# Altium footprint library micro-renesas.PCBLIB: 11 footprints (part 1 of 2)
Each footprint in its own frame and in the unit in brackets; x right, y up, seen from the top. Pads: shape width x height; smd on the part's side, far side on the other; paste and mask are expansions set on the pad; w line width, h text height; cw(c..) or ccw(c..) is an arc to the next point about the centre after c.
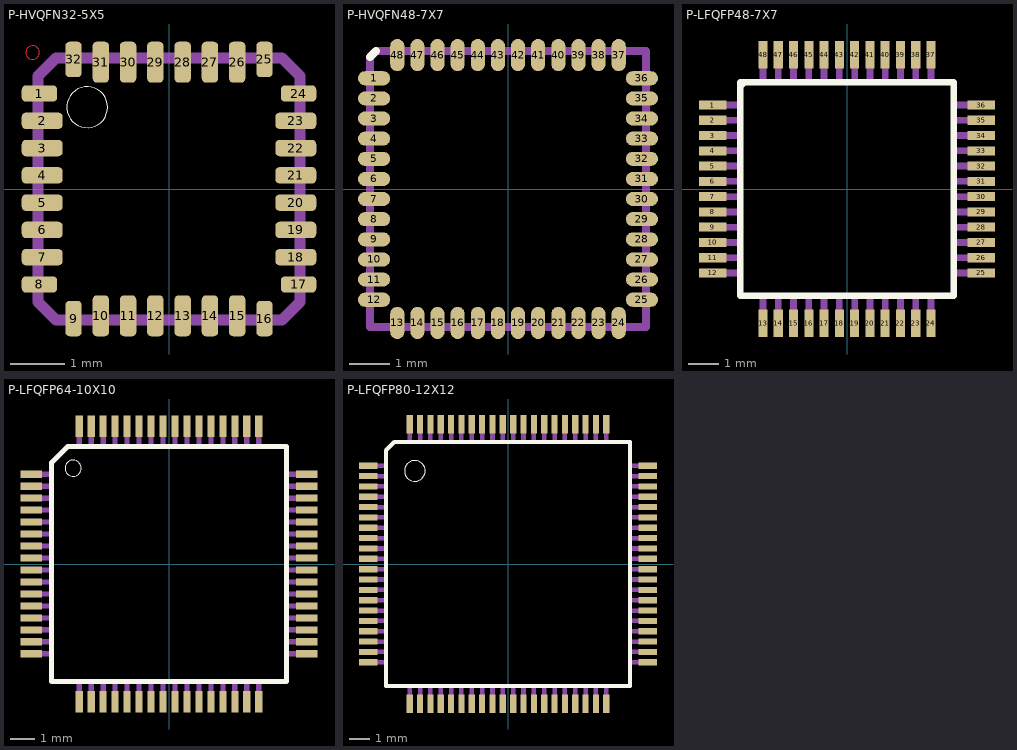
[diagram p0: the footprints below, top view; thin cyan lines are the x and y axes]

## P-HVQFN32-5X5 [mm]
pads (32):
  rrect50% 0.65x0.3 smd: 1(-2.375,1.75) 8(-2.375,-1.75) 17(2.375,-1.75) 24(2.375,1.75)
  rrect50% 0.75x0.3 smd: 2(-2.325,1.25) 3(-2.325,0.75) 4(-2.325,0.25) 5(-2.325,-0.25) 6(-2.325,-0.75) 7(-2.325,-1.25) 18(2.325,-1.25) 19(2.325,-0.75) 20(2.325,-0.25) 21(2.325,0.25) 22(2.325,0.75) 23(2.325,1.25)
  rrect50% 0.3x0.65 smd: 9(-1.75,-2.375) 16(1.75,-2.375) 25(1.75,2.375) 32(-1.75,2.375)
  rrect50% 0.3x0.75 smd: 10(-1.25,-2.325) 11(-0.75,-2.325) 12(-0.25,-2.325) 13(0.25,-2.325) 14(0.75,-2.325) 15(1.25,-2.325) 26(1.25,2.325) 27(0.75,2.325) 28(0.25,2.325) 29(-0.25,2.325) 30(-0.75,2.325) 31(-1.25,2.325)
Top Layer:
  circle w0: c-2.5,2.5 r0.125
Top Overlay:
  circle w0: c-1.5,1.5 r0.375
Bottom Paste:
  rectangle: -2.65,1.65 -2.1,1.85
  rectangle: -2.65,1.15 -2,1.35
  rectangle: -2.65,0.65 -2,0.85
  rectangle: -2.65,0.15 -2,0.35
  rectangle: -2.65,-0.35 -2,-0.15
  rectangle: -2.65,-0.85 -2,-0.65
  rectangle: -2.65,-1.35 -2,-1.15
  rectangle: -2.65,-1.85 -2.1,-1.65
  region: -1.65,-2.65 -1.65,-2.1 -1.85,-2.1 -1.85,-2.65
  region: -1.15,-2.65 -1.15,-2 -1.35,-2 -1.35,-2.65
  region: -0.65,-2.65 -0.65,-2 -0.85,-2 -0.85,-2.65
  region: -0.15,-2.65 -0.15,-2 -0.35,-2 -0.35,-2.65
  region: 0.35,-2.65 0.35,-2 0.15,-2 0.15,-2.65
  region: 0.85,-2.65 0.85,-2 0.65,-2 0.65,-2.65
  region: 1.35,-2.65 1.35,-2 1.15,-2 1.15,-2.65
  region: 1.85,-2.65 1.85,-2.1 1.65,-2.1 1.65,-2.65
  region: 2.65,-1.65 2.1,-1.65 2.1,-1.85 2.65,-1.85
  region: 2.65,-1.15 2,-1.15 2,-1.35 2.65,-1.35
  region: 2.65,-0.65 2,-0.65 2,-0.85 2.65,-0.85
  region: 2.65,-0.15 2,-0.15 2,-0.35 2.65,-0.35
  region: 2.65,0.35 2,0.35 2,0.15 2.65,0.15
  region: 2.65,0.85 2,0.85 2,0.65 2.65,0.65
  region: 2.65,1.35 2,1.35 2,1.15 2.65,1.15
  region: 2.65,1.85 2.1,1.85 2.1,1.65 2.65,1.65
  region: 1.65,2.65 1.65,2.1 1.85,2.1 1.85,2.65
  region: 1.15,2.65 1.15,2 1.35,2 1.35,2.65
  region: 0.65,2.65 0.65,2 0.85,2 0.85,2.65
  region: 0.15,2.65 0.15,2 0.35,2 0.35,2.65
  region: -0.35,2.65 -0.35,2 -0.15,2 -0.15,2.65
  region: -0.85,2.65 -0.85,2 -0.65,2 -0.65,2.65
  region: -1.35,2.65 -1.35,2 -1.15,2 -1.15,2.65
  region: -1.85,2.65 -1.85,2.1 -1.65,2.1 -1.65,2.65
Top Solder:
  rectangle: -2.75,1.55 -2,1.95
  rectangle: -2.75,1.05 -1.9,1.45
  rectangle: -2.75,0.55 -1.9,0.95
  rectangle: -2.75,0.05 -1.9,0.45
  rectangle: -2.75,-0.45 -1.9,-0.05
  rectangle: -2.75,-0.95 -1.9,-0.55
  rectangle: -2.75,-1.45 -1.9,-1.05
  rectangle: -2.75,-1.95 -2,-1.55
  region: -1.55,-2.75 -1.55,-2 -1.95,-2 -1.95,-2.75
  region: -1.05,-2.75 -1.05,-1.9 -1.45,-1.9 -1.45,-2.75
  region: -0.55,-2.75 -0.55,-1.9 -0.95,-1.9 -0.95,-2.75
  region: -0.05,-2.75 -0.05,-1.9 -0.45,-1.9 -0.45,-2.75
  region: 0.45,-2.75 0.45,-1.9 0.05,-1.9 0.05,-2.75
  region: 0.95,-2.75 0.95,-1.9 0.55,-1.9 0.55,-2.75
  region: 1.45,-2.75 1.45,-1.9 1.05,-1.9 1.05,-2.75
  region: 1.95,-2.75 1.95,-2 1.55,-2 1.55,-2.75
  region: 2.75,-1.55 2,-1.55 2,-1.95 2.75,-1.95
  region: 2.75,-1.05 1.9,-1.05 1.9,-1.45 2.75,-1.45
  region: 2.75,-0.55 1.9,-0.55 1.9,-0.95 2.75,-0.95
  region: 2.75,-0.05 1.9,-0.05 1.9,-0.45 2.75,-0.45
  region: 2.75,0.45 1.9,0.45 1.9,0.05 2.75,0.05
  region: 2.75,0.95 1.9,0.95 1.9,0.55 2.75,0.55
  region: 2.75,1.45 1.9,1.45 1.9,1.05 2.75,1.05
  region: 2.75,1.95 2,1.95 2,1.55 2.75,1.55
  region: 1.55,2.75 1.55,2 1.95,2 1.95,2.75
  region: 1.05,2.75 1.05,1.9 1.45,1.9 1.45,2.75
  region: 0.55,2.75 0.55,1.9 0.95,1.9 0.95,2.75
  region: 0.05,2.75 0.05,1.9 0.45,1.9 0.45,2.75
  region: -0.45,2.75 -0.45,1.9 -0.05,1.9 -0.05,2.75
  region: -0.95,2.75 -0.95,1.9 -0.55,1.9 -0.55,2.75
  region: -1.45,2.75 -1.45,1.9 -1.05,1.9 -1.05,2.75
  region: -1.95,2.75 -1.95,2 -1.55,2 -1.55,2.75
Mechanical 16:
  lines w0.203: -2.399,-2.073 -2.399,2.073 -2.073,2.399 2.073,2.399 2.399,2.073 2.399,-2.073 2.073,-2.399 -2.073,-2.399 -2.399,-2.073

## P-HVQFN48-7X7 [mm]
pads (48):
  rrect100% 0.8x0.35 smd: 1(-3.325,2.75) 2(-3.325,2.25) 3(-3.325,1.75) 4(-3.325,1.25) 5(-3.325,0.75) 6(-3.325,0.25) 7(-3.325,-0.25) 8(-3.325,-0.75) 9(-3.325,-1.25) 10(-3.325,-1.75) 11(-3.325,-2.25) 12(-3.325,-2.75) 25(3.325,-2.75) 26(3.325,-2.25) 27(3.325,-1.75) 28(3.325,-1.25) 29(3.325,-0.75) 30(3.325,-0.25) 31(3.325,0.25) 32(3.325,0.75) 33(3.325,1.25) 34(3.325,1.75) 35(3.325,2.25) 36(3.325,2.75)
  rrect100% 0.35x0.8 smd: 13(-2.75,-3.325) 14(-2.25,-3.325) 15(-1.75,-3.325) 16(-1.25,-3.325) 17(-0.75,-3.325) 18(-0.25,-3.325) 19(0.25,-3.325) 20(0.75,-3.325) 21(1.25,-3.325) 22(1.75,-3.325) 23(2.25,-3.325) 24(2.75,-3.325) 37(2.75,3.325) 38(2.25,3.325) 39(1.75,3.325) 40(1.25,3.325) 41(0.75,3.325) 42(0.25,3.325) 43(-0.25,3.325) 44(-0.75,3.325) 45(-1.25,3.325) 46(-1.75,3.325) 47(-2.25,3.325) 48(-2.75,3.325)
Top Overlay:
  lines w0.203: -3.423,3.275 -3.275,3.423
Top Solder:
  lines w0.4: -3.55,-2.75 -3.1,-2.75 ; -3.55,-2.25 -3.1,-2.25 ; -3.55,-1.75 -3.1,-1.75 ; -3.55,-1.25 -3.1,-1.25 ; -3.55,-0.75 -3.1,-0.75 ; -3.55,-0.25 -3.1,-0.25 ; -3.55,0.25 -3.1,0.25 ; -3.55,0.75 -3.1,0.75 ; -3.55,1.25 -3.1,1.25 ; -3.55,1.75 -3.1,1.75 ; -3.55,2.25 -3.1,2.25 ; -3.55,2.75 -3.1,2.75 ; -2.75,-3.55 -2.75,-3.1 ; -2.75,3.1 -2.75,3.55 ; -2.25,-3.55 -2.25,-3.1 ; -2.25,3.1 -2.25,3.55 ; -1.75,-3.55 -1.75,-3.1 ; -1.75,3.1 -1.75,3.55 ; -1.25,-3.55 -1.25,-3.1 ; -1.25,3.1 -1.25,3.55 ; -0.75,-3.55 -0.75,-3.1 ; -0.75,3.1 -0.75,3.55 ; -0.25,-3.55 -0.25,-3.1 ; -0.25,3.1 -0.25,3.55 ; 0.25,-3.55 0.25,-3.1 ; 0.25,3.1 0.25,3.55 ; 0.75,-3.55 0.75,-3.1 ; 0.75,3.1 0.75,3.55 ; 1.25,-3.55 1.25,-3.1 ; 1.25,3.1 1.25,3.55 ; 1.75,-3.55 1.75,-3.1 ; 1.75,3.1 1.75,3.55 ; 2.25,-3.55 2.25,-3.1 ; 2.25,3.1 2.25,3.55 ; 2.75,-3.55 2.75,-3.1 ; 2.75,3.1 2.75,3.55 ; 3.1,-2.75 3.55,-2.75 ; 3.1,-2.25 3.55,-2.25 ; 3.1,-1.75 3.55,-1.75 ; 3.1,-1.25 3.55,-1.25 ; 3.1,-0.75 3.55,-0.75 ; 3.1,-0.25 3.55,-0.25 ; 3.1,0.25 3.55,0.25 ; 3.1,0.75 3.55,0.75 ; 3.1,1.25 3.55,1.25 ; 3.1,1.75 3.55,1.75 ; 3.1,2.25 3.55,2.25 ; 3.1,2.75 3.55,2.75
Bottom Solder:
  lines w0.3: -3.55,-2.75 -3.1,-2.75 ; -3.55,-2.25 -3.1,-2.25 ; -3.55,-1.75 -3.1,-1.75 ; -3.55,-1.25 -3.1,-1.25 ; -3.55,-0.75 -3.1,-0.75 ; -3.55,-0.25 -3.1,-0.25 ; -3.55,0.25 -3.1,0.25 ; -3.55,0.75 -3.1,0.75 ; -3.55,1.25 -3.1,1.25 ; -3.55,1.75 -3.1,1.75 ; -3.55,2.25 -3.1,2.25 ; -3.55,2.75 -3.1,2.75 ; -2.75,-3.55 -2.75,-3.1 ; -2.75,3.1 -2.75,3.55 ; -2.25,-3.55 -2.25,-3.1 ; -2.25,3.1 -2.25,3.55 ; -1.75,-3.55 -1.75,-3.1 ; -1.75,3.1 -1.75,3.55 ; -1.25,-3.55 -1.25,-3.1 ; -1.25,3.1 -1.25,3.55 ; -0.75,-3.55 -0.75,-3.1 ; -0.75,3.1 -0.75,3.55 ; -0.25,-3.55 -0.25,-3.1 ; -0.25,3.1 -0.25,3.55 ; 0.25,-3.55 0.25,-3.1 ; 0.25,3.1 0.25,3.55 ; 0.75,-3.55 0.75,-3.1 ; 0.75,3.1 0.75,3.55 ; 1.25,-3.55 1.25,-3.1 ; 1.25,3.1 1.25,3.55 ; 1.75,-3.55 1.75,-3.1 ; 1.75,3.1 1.75,3.55 ; 2.25,-3.55 2.25,-3.1 ; 2.25,3.1 2.25,3.55 ; 2.75,-3.55 2.75,-3.1 ; 2.75,3.1 2.75,3.55 ; 3.1,-2.75 3.55,-2.75 ; 3.1,-2.25 3.55,-2.25 ; 3.1,-1.75 3.55,-1.75 ; 3.1,-1.25 3.55,-1.25 ; 3.1,-0.75 3.55,-0.75 ; 3.1,-0.25 3.55,-0.25 ; 3.1,0.25 3.55,0.25 ; 3.1,0.75 3.55,0.75 ; 3.1,1.25 3.55,1.25 ; 3.1,1.75 3.55,1.75 ; 3.1,2.25 3.55,2.25 ; 3.1,2.75 3.55,2.75
Mechanical 16:
  lines w0.203: -3.423,3.275 -3.423,-3.423 3.423,-3.423 3.423,3.423 -3.275,3.423

## P-LFQFP48-7X7 [mm]
pads (48):
  rect 0.9x0.3 smd: 1(-4.4,2.75) 2(-4.4,2.25) 3(-4.4,1.75) 4(-4.4,1.25) 5(-4.4,0.75) 6(-4.4,0.25) 7(-4.4,-0.25) 8(-4.4,-0.75) 9(-4.4,-1.25) 10(-4.4,-1.75) 11(-4.4,-2.25) 12(-4.4,-2.75) 25(4.4,-2.75) 26(4.4,-2.25) 27(4.4,-1.75) 28(4.4,-1.25) 29(4.4,-0.75) 30(4.4,-0.25) 31(4.4,0.25) 32(4.4,0.75) 33(4.4,1.25) 34(4.4,1.75) 35(4.4,2.25) 36(4.4,2.75)
  rect 0.3x0.9 smd: 13(-2.75,-4.4) 14(-2.25,-4.4) 15(-1.75,-4.4) 16(-1.25,-4.4) 17(-0.75,-4.4) 18(-0.25,-4.4) 19(0.25,-4.4) 20(0.75,-4.4) 21(1.25,-4.4) 22(1.75,-4.4) 23(2.25,-4.4) 24(2.75,-4.4) 37(2.75,4.4) 38(2.25,4.4) 39(1.75,4.4) 40(1.25,4.4) 41(0.75,4.4) 42(0.25,4.4) 43(-0.25,4.4) 44(-0.75,4.4) 45(-1.25,4.4) 46(-1.75,4.4) 47(-2.25,4.4) 48(-2.75,4.4)
Top Overlay:
  lines w0.203: -3.498,3.35 -3.35,3.498 ; -3.498,-3.498 3.498,-3.498 3.498,3.498 -3.498,3.498 -3.498,-3.498
Top Paste:
  rectangle: -4.825,2.612 -3.975,2.887
  rectangle: -4.825,2.113 -3.975,2.388
  rectangle: -4.825,1.612 -3.975,1.887
  rectangle: -4.825,1.113 -3.975,1.388
  rectangle: -4.825,0.612 -3.975,0.887
  rectangle: -4.825,0.113 -3.975,0.388
  rectangle: -4.825,-0.388 -3.975,-0.113
  rectangle: -4.825,-0.887 -3.975,-0.612
  rectangle: -4.825,-1.388 -3.975,-1.113
  rectangle: -4.825,-1.887 -3.975,-1.612
  rectangle: -4.825,-2.388 -3.975,-2.113
  rectangle: -4.825,-2.887 -3.975,-2.612
  region: -2.613,-4.825 -2.613,-3.975 -2.887,-3.975 -2.887,-4.825
  region: -2.113,-4.825 -2.113,-3.975 -2.387,-3.975 -2.387,-4.825
  region: -1.613,-4.825 -1.613,-3.975 -1.887,-3.975 -1.887,-4.825
  region: -1.113,-4.825 -1.113,-3.975 -1.387,-3.975 -1.387,-4.825
  region: -0.613,-4.825 -0.613,-3.975 -0.887,-3.975 -0.887,-4.825
  region: -0.113,-4.825 -0.113,-3.975 -0.387,-3.975 -0.387,-4.825
  region: 0.387,-4.825 0.387,-3.975 0.113,-3.975 0.113,-4.825
  region: 0.887,-4.825 0.887,-3.975 0.613,-3.975 0.613,-4.825
  region: 1.387,-4.825 1.387,-3.975 1.113,-3.975 1.113,-4.825
  region: 1.887,-4.825 1.887,-3.975 1.613,-3.975 1.613,-4.825
  region: 2.387,-4.825 2.387,-3.975 2.113,-3.975 2.113,-4.825
  region: 2.887,-4.825 2.887,-3.975 2.613,-3.975 2.613,-4.825
  region: 4.825,-2.612 3.975,-2.612 3.975,-2.887 4.825,-2.887
  region: 4.825,-2.113 3.975,-2.113 3.975,-2.388 4.825,-2.388
  region: 4.825,-1.612 3.975,-1.612 3.975,-1.887 4.825,-1.887
  region: 4.825,-1.113 3.975,-1.113 3.975,-1.388 4.825,-1.388
  region: 4.825,-0.612 3.975,-0.612 3.975,-0.887 4.825,-0.887
  region: 4.825,-0.113 3.975,-0.113 3.975,-0.388 4.825,-0.388
  region: 4.825,0.388 3.975,0.388 3.975,0.113 4.825,0.113
  region: 4.825,0.887 3.975,0.887 3.975,0.612 4.825,0.612
  region: 4.825,1.388 3.975,1.388 3.975,1.113 4.825,1.113
  region: 4.825,1.887 3.975,1.887 3.975,1.612 4.825,1.612
  region: 4.825,2.388 3.975,2.388 3.975,2.113 4.825,2.113
  region: 4.825,2.887 3.975,2.887 3.975,2.612 4.825,2.612
  region: 2.613,4.825 2.613,3.975 2.887,3.975 2.887,4.825
  region: 2.113,4.825 2.113,3.975 2.387,3.975 2.387,4.825
  region: 1.613,4.825 1.613,3.975 1.887,3.975 1.887,4.825
  region: 1.113,4.825 1.113,3.975 1.387,3.975 1.387,4.825
  region: 0.613,4.825 0.613,3.975 0.887,3.975 0.887,4.825
  region: 0.113,4.825 0.113,3.975 0.387,3.975 0.387,4.825
  region: -0.387,4.825 -0.387,3.975 -0.113,3.975 -0.113,4.825
  region: -0.887,4.825 -0.887,3.975 -0.613,3.975 -0.613,4.825
  region: -1.387,4.825 -1.387,3.975 -1.113,3.975 -1.113,4.825
  region: -1.887,4.825 -1.887,3.975 -1.613,3.975 -1.613,4.825
  region: -2.387,4.825 -2.387,3.975 -2.113,3.975 -2.113,4.825
  region: -2.887,4.825 -2.887,3.975 -2.613,3.975 -2.613,4.825
Top Solder:
  rectangle: -4.913,2.575 -3.9,2.925
  rectangle: -4.913,2.075 -3.9,2.425
  rectangle: -4.913,1.575 -3.9,1.925
  rectangle: -4.913,1.075 -3.9,1.425
  rectangle: -4.913,0.575 -3.9,0.925
  rectangle: -4.913,0.075 -3.9,0.425
  rectangle: -4.913,-0.425 -3.9,-0.075
  rectangle: -4.913,-0.925 -3.9,-0.575
  rectangle: -4.913,-1.425 -3.9,-1.075
  rectangle: -4.913,-1.925 -3.9,-1.575
  rectangle: -4.913,-2.425 -3.9,-2.075
  rectangle: -4.913,-2.925 -3.9,-2.575
  region: -2.575,-4.912 -2.575,-3.9 -2.925,-3.9 -2.925,-4.912
  region: -2.075,-4.912 -2.075,-3.9 -2.425,-3.9 -2.425,-4.912
  region: -1.575,-4.912 -1.575,-3.9 -1.925,-3.9 -1.925,-4.912
  region: -1.075,-4.912 -1.075,-3.9 -1.425,-3.9 -1.425,-4.912
  region: -0.575,-4.912 -0.575,-3.9 -0.925,-3.9 -0.925,-4.912
  region: -0.075,-4.912 -0.075,-3.9 -0.425,-3.9 -0.425,-4.912
  region: 0.425,-4.912 0.425,-3.9 0.075,-3.9 0.075,-4.912
  region: 0.925,-4.912 0.925,-3.9 0.575,-3.9 0.575,-4.912
  region: 1.425,-4.912 1.425,-3.9 1.075,-3.9 1.075,-4.912
  region: 1.925,-4.912 1.925,-3.9 1.575,-3.9 1.575,-4.912
  region: 2.425,-4.912 2.425,-3.9 2.075,-3.9 2.075,-4.912
  region: 2.925,-4.912 2.925,-3.9 2.575,-3.9 2.575,-4.912
  region: 4.913,-2.575 3.9,-2.575 3.9,-2.925 4.913,-2.925
  region: 4.913,-2.075 3.9,-2.075 3.9,-2.425 4.913,-2.425
  region: 4.913,-1.575 3.9,-1.575 3.9,-1.925 4.913,-1.925
  region: 4.913,-1.075 3.9,-1.075 3.9,-1.425 4.913,-1.425
  region: 4.913,-0.575 3.9,-0.575 3.9,-0.925 4.913,-0.925
  region: 4.913,-0.075 3.9,-0.075 3.9,-0.425 4.913,-0.425
  region: 4.913,0.425 3.9,0.425 3.9,0.075 4.913,0.075
  region: 4.913,0.925 3.9,0.925 3.9,0.575 4.913,0.575
  region: 4.913,1.425 3.9,1.425 3.9,1.075 4.913,1.075
  region: 4.913,1.925 3.9,1.925 3.9,1.575 4.913,1.575
  region: 4.913,2.425 3.9,2.425 3.9,2.075 4.913,2.075
  region: 4.913,2.925 3.9,2.925 3.9,2.575 4.913,2.575
  region: 2.575,4.912 2.575,3.9 2.925,3.9 2.925,4.912
  region: 2.075,4.912 2.075,3.9 2.425,3.9 2.425,4.912
  region: 1.575,4.912 1.575,3.9 1.925,3.9 1.925,4.912
  region: 1.075,4.912 1.075,3.9 1.425,3.9 1.425,4.912
  region: 0.575,4.912 0.575,3.9 0.925,3.9 0.925,4.912
  region: 0.075,4.912 0.075,3.9 0.425,3.9 0.425,4.912
  region: -0.425,4.912 -0.425,3.9 -0.075,3.9 -0.075,4.912
  region: -0.925,4.912 -0.925,3.9 -0.575,3.9 -0.575,4.912
  region: -1.425,4.912 -1.425,3.9 -1.075,3.9 -1.075,4.912
  region: -1.925,4.912 -1.925,3.9 -1.575,3.9 -1.575,4.912
  region: -2.425,4.912 -2.425,3.9 -2.075,3.9 -2.075,4.912
  region: -2.925,4.912 -2.925,3.9 -2.575,3.9 -2.575,4.912
Mechanical 16:
  rectangle: -4.55,2.64 -3.6,2.86
  rectangle: -4.55,2.14 -3.6,2.36
  rectangle: -4.55,1.64 -3.6,1.86
  rectangle: -4.55,1.14 -3.6,1.36
  rectangle: -4.55,0.64 -3.6,0.86
  rectangle: -4.55,0.14 -3.6,0.36
  rectangle: -4.55,-0.36 -3.6,-0.14
  rectangle: -4.55,-0.86 -3.6,-0.64
  rectangle: -4.55,-1.36 -3.6,-1.14
  rectangle: -4.55,-1.86 -3.6,-1.64
  rectangle: -4.55,-2.36 -3.6,-2.14
  rectangle: -4.55,-2.86 -3.6,-2.64
  rectangle: -2.86,-4.55 -2.64,-3.6
  rectangle: -2.36,-4.55 -2.14,-3.6
  rectangle: -1.86,-4.55 -1.64,-3.6
  rectangle: -1.36,-4.55 -1.14,-3.6
  rectangle: -0.86,-4.55 -0.64,-3.6
  rectangle: -0.36,-4.55 -0.14,-3.6
  rectangle: 0.14,-4.55 0.36,-3.6
  rectangle: 0.64,-4.55 0.86,-3.6
  rectangle: 1.14,-4.55 1.36,-3.6
  rectangle: 1.64,-4.55 1.86,-3.6
  rectangle: 2.14,-4.55 2.36,-3.6
  rectangle: 2.64,-4.55 2.86,-3.6
  rectangle: 3.6,-2.86 4.55,-2.64
  rectangle: 3.6,-2.36 4.55,-2.14
  rectangle: 3.6,-1.86 4.55,-1.64
  rectangle: 3.6,-1.36 4.55,-1.14
  rectangle: 3.6,-0.86 4.55,-0.64
  rectangle: 3.6,-0.36 4.55,-0.14
  rectangle: 3.6,0.14 4.55,0.36
  rectangle: 3.6,0.64 4.55,0.86
  rectangle: 3.6,1.14 4.55,1.36
  rectangle: 3.6,1.64 4.55,1.86
  rectangle: 3.6,2.14 4.55,2.36
  rectangle: 3.6,2.64 4.55,2.86
  rectangle: 2.64,3.6 2.86,4.55
  rectangle: 2.14,3.6 2.36,4.55
  rectangle: 1.64,3.6 1.86,4.55
  rectangle: 1.14,3.6 1.36,4.55
  rectangle: 0.64,3.6 0.86,4.55
  rectangle: 0.14,3.6 0.36,4.55
  rectangle: -0.36,3.6 -0.14,4.55
  rectangle: -0.86,3.6 -0.64,4.55
  rectangle: -1.36,3.6 -1.14,4.55
  rectangle: -1.86,3.6 -1.64,4.55
  rectangle: -2.36,3.6 -2.14,4.55
  rectangle: -2.86,3.6 -2.64,4.55

## P-LFQFP64-10X10 [mm]
pads (64):
  rect 0.9x0.3 smd: 1(-5.75,3.75) 2(-5.75,3.25) 3(-5.75,2.75) 4(-5.75,2.25) 5(-5.75,1.75) 6(-5.75,1.25) 7(-5.75,0.75) 8(-5.75,0.25) 9(-5.75,-0.25) 10(-5.75,-0.75) 11(-5.75,-1.25) 12(-5.75,-1.75) 13(-5.75,-2.25) 14(-5.75,-2.75) 15(-5.75,-3.25) 16(-5.75,-3.75) 33(5.75,-3.75) 34(5.75,-3.25) 35(5.75,-2.75) 36(5.75,-2.25) 37(5.75,-1.75) 38(5.75,-1.25) 39(5.75,-0.75) 40(5.75,-0.25) 41(5.75,0.25) 42(5.75,0.75) 43(5.75,1.25) 44(5.75,1.75) 45(5.75,2.25) 46(5.75,2.75) 47(5.75,3.25) 48(5.75,3.75)
  rect 0.3x0.9 smd: 17(-3.75,-5.75) 18(-3.25,-5.75) 19(-2.75,-5.75) 20(-2.25,-5.75) 21(-1.75,-5.75) 22(-1.25,-5.75) 23(-0.75,-5.75) 24(-0.25,-5.75) 25(0.25,-5.75) 26(0.75,-5.75) 27(1.25,-5.75) 28(1.75,-5.75) 29(2.25,-5.75) 30(2.75,-5.75) 31(3.25,-5.75) 32(3.75,-5.75) 49(3.75,5.75) 50(3.25,5.75) 51(2.75,5.75) 52(2.25,5.75) 53(1.75,5.75) 54(1.25,5.75) 55(0.75,5.75) 56(0.25,5.75) 57(-0.25,5.75) 58(-0.75,5.75) 59(-1.25,5.75) 60(-1.75,5.75) 61(-2.25,5.75) 62(-2.75,5.75) 63(-3.25,5.75) 64(-3.75,5.75)
Top Overlay:
  circle w0: c-4,4 r0.338
  lines w0.203: -4.898,-4.898 4.898,-4.898 4.898,4.898 -4.237,4.898 -4.898,4.237 -4.898,-4.898
Top Paste:
  rectangle: -6.175,3.612 -5.325,3.887
  rectangle: -6.175,3.113 -5.325,3.388
  rectangle: -6.175,2.612 -5.325,2.887
  rectangle: -6.175,2.113 -5.325,2.388
  rectangle: -6.175,1.612 -5.325,1.887
  rectangle: -6.175,1.113 -5.325,1.388
  rectangle: -6.175,0.612 -5.325,0.887
  rectangle: -6.175,0.113 -5.325,0.388
  rectangle: -6.175,-0.388 -5.325,-0.113
  rectangle: -6.175,-0.887 -5.325,-0.612
  rectangle: -6.175,-1.388 -5.325,-1.113
  rectangle: -6.175,-1.887 -5.325,-1.612
  rectangle: -6.175,-2.388 -5.325,-2.113
  rectangle: -6.175,-2.887 -5.325,-2.612
  rectangle: -6.175,-3.388 -5.325,-3.113
  rectangle: -6.175,-3.887 -5.325,-3.612
  region: -3.613,-6.175 -3.613,-5.325 -3.888,-5.325 -3.888,-6.175
  region: -3.113,-6.175 -3.113,-5.325 -3.388,-5.325 -3.388,-6.175
  region: -2.613,-6.175 -2.613,-5.325 -2.888,-5.325 -2.888,-6.175
  region: -2.113,-6.175 -2.113,-5.325 -2.388,-5.325 -2.388,-6.175
  region: -1.613,-6.175 -1.613,-5.325 -1.888,-5.325 -1.888,-6.175
  region: -1.112,-6.175 -1.112,-5.325 -1.387,-5.325 -1.387,-6.175
  region: -0.613,-6.175 -0.613,-5.325 -0.888,-5.325 -0.888,-6.175
  region: -0.112,-6.175 -0.112,-5.325 -0.387,-5.325 -0.387,-6.175
  region: 0.387,-6.175 0.387,-5.325 0.112,-5.325 0.112,-6.175
  region: 0.888,-6.175 0.888,-5.325 0.613,-5.325 0.613,-6.175
  region: 1.387,-6.175 1.387,-5.325 1.112,-5.325 1.112,-6.175
  region: 1.888,-6.175 1.888,-5.325 1.613,-5.325 1.613,-6.175
  region: 2.388,-6.175 2.388,-5.325 2.113,-5.325 2.113,-6.175
  region: 2.888,-6.175 2.888,-5.325 2.613,-5.325 2.613,-6.175
  region: 3.388,-6.175 3.388,-5.325 3.113,-5.325 3.113,-6.175
  region: 3.888,-6.175 3.888,-5.325 3.613,-5.325 3.613,-6.175
  region: 6.175,-3.612 5.325,-3.612 5.325,-3.887 6.175,-3.887
  region: 6.175,-3.113 5.325,-3.113 5.325,-3.388 6.175,-3.388
  region: 6.175,-2.612 5.325,-2.612 5.325,-2.887 6.175,-2.887
  region: 6.175,-2.113 5.325,-2.113 5.325,-2.388 6.175,-2.388
  region: 6.175,-1.612 5.325,-1.612 5.325,-1.887 6.175,-1.887
  region: 6.175,-1.113 5.325,-1.113 5.325,-1.388 6.175,-1.388
  region: 6.175,-0.612 5.325,-0.612 5.325,-0.887 6.175,-0.887
  region: 6.175,-0.113 5.325,-0.113 5.325,-0.388 6.175,-0.388
  region: 6.175,0.388 5.325,0.388 5.325,0.113 6.175,0.113
  region: 6.175,0.887 5.325,0.887 5.325,0.612 6.175,0.612
  region: 6.175,1.388 5.325,1.388 5.325,1.113 6.175,1.113
  region: 6.175,1.887 5.325,1.887 5.325,1.612 6.175,1.612
  region: 6.175,2.388 5.325,2.388 5.325,2.113 6.175,2.113
  region: 6.175,2.887 5.325,2.887 5.325,2.612 6.175,2.612
  region: 6.175,3.388 5.325,3.388 5.325,3.113 6.175,3.113
  region: 6.175,3.887 5.325,3.887 5.325,3.612 6.175,3.612
  region: 3.613,6.175 3.613,5.325 3.888,5.325 3.888,6.175
  region: 3.113,6.175 3.113,5.325 3.388,5.325 3.388,6.175
  region: 2.613,6.175 2.613,5.325 2.888,5.325 2.888,6.175
  region: 2.113,6.175 2.113,5.325 2.388,5.325 2.388,6.175
  region: 1.613,6.175 1.613,5.325 1.888,5.325 1.888,6.175
  region: 1.112,6.175 1.112,5.325 1.387,5.325 1.387,6.175
  region: 0.613,6.175 0.613,5.325 0.888,5.325 0.888,6.175
  region: 0.112,6.175 0.112,5.325 0.387,5.325 0.387,6.175
  region: -0.387,6.175 -0.387,5.325 -0.112,5.325 -0.112,6.175
  region: -0.888,6.175 -0.888,5.325 -0.613,5.325 -0.613,6.175
  region: -1.387,6.175 -1.387,5.325 -1.112,5.325 -1.112,6.175
  region: -1.888,6.175 -1.888,5.325 -1.613,5.325 -1.613,6.175
  region: -2.388,6.175 -2.388,5.325 -2.113,5.325 -2.113,6.175
  region: -2.888,6.175 -2.888,5.325 -2.613,5.325 -2.613,6.175
  region: -3.388,6.175 -3.388,5.325 -3.113,5.325 -3.113,6.175
  region: -3.888,6.175 -3.888,5.325 -3.613,5.325 -3.613,6.175
Top Solder:
  rectangle: -6.263,3.575 -5.237,3.925
  rectangle: -6.263,3.075 -5.237,3.425
  rectangle: -6.263,2.575 -5.237,2.925
  rectangle: -6.263,2.075 -5.237,2.425
  rectangle: -6.263,1.575 -5.237,1.925
  rectangle: -6.263,1.075 -5.237,1.425
  rectangle: -6.263,0.575 -5.237,0.925
  rectangle: -6.263,0.075 -5.237,0.425
  rectangle: -6.263,-0.425 -5.237,-0.075
  rectangle: -6.263,-0.925 -5.237,-0.575
  rectangle: -6.263,-1.425 -5.237,-1.075
  rectangle: -6.263,-1.925 -5.237,-1.575
  rectangle: -6.263,-2.425 -5.237,-2.075
  rectangle: -6.263,-2.925 -5.237,-2.575
  rectangle: -6.263,-3.425 -5.237,-3.075
  rectangle: -6.263,-3.925 -5.237,-3.575
  region: -3.575,-6.263 -3.575,-5.237 -3.925,-5.237 -3.925,-6.263
  region: -3.075,-6.262 -3.075,-5.238 -3.425,-5.238 -3.425,-6.262
  region: -2.575,-6.262 -2.575,-5.238 -2.925,-5.238 -2.925,-6.262
  region: -2.075,-6.262 -2.075,-5.238 -2.425,-5.238 -2.425,-6.262
  region: -1.575,-6.262 -1.575,-5.238 -1.925,-5.238 -1.925,-6.262
  region: -1.075,-6.262 -1.075,-5.238 -1.425,-5.238 -1.425,-6.262
  region: -0.575,-6.262 -0.575,-5.238 -0.925,-5.238 -0.925,-6.262
  region: -0.075,-6.262 -0.075,-5.238 -0.425,-5.238 -0.425,-6.262
  region: 0.425,-6.262 0.425,-5.238 0.075,-5.238 0.075,-6.262
  region: 0.925,-6.262 0.925,-5.238 0.575,-5.238 0.575,-6.262
  region: 1.425,-6.262 1.425,-5.238 1.075,-5.238 1.075,-6.262
  region: 1.925,-6.262 1.925,-5.238 1.575,-5.238 1.575,-6.262
  region: 2.425,-6.262 2.425,-5.238 2.075,-5.238 2.075,-6.262
  region: 2.925,-6.262 2.925,-5.238 2.575,-5.238 2.575,-6.262
  region: 3.425,-6.262 3.425,-5.238 3.075,-5.238 3.075,-6.262
  region: 3.925,-6.263 3.925,-5.237 3.575,-5.237 3.575,-6.263
  region: 6.263,-3.575 5.237,-3.575 5.237,-3.925 6.263,-3.925
  region: 6.263,-3.075 5.237,-3.075 5.237,-3.425 6.263,-3.425
  region: 6.263,-2.575 5.237,-2.575 5.237,-2.925 6.263,-2.925
  region: 6.263,-2.075 5.237,-2.075 5.237,-2.425 6.263,-2.425
  region: 6.263,-1.575 5.237,-1.575 5.237,-1.925 6.263,-1.925
  region: 6.263,-1.075 5.237,-1.075 5.237,-1.425 6.263,-1.425
  region: 6.263,-0.575 5.237,-0.575 5.237,-0.925 6.263,-0.925
  region: 6.263,-0.075 5.237,-0.075 5.237,-0.425 6.263,-0.425
  region: 6.263,0.425 5.237,0.425 5.237,0.075 6.263,0.075
  region: 6.263,0.925 5.237,0.925 5.237,0.575 6.263,0.575
  region: 6.263,1.425 5.237,1.425 5.237,1.075 6.263,1.075
  region: 6.263,1.925 5.237,1.925 5.237,1.575 6.263,1.575
  region: 6.263,2.425 5.237,2.425 5.237,2.075 6.263,2.075
  region: 6.263,2.925 5.237,2.925 5.237,2.575 6.263,2.575
  region: 6.263,3.425 5.237,3.425 5.237,3.075 6.263,3.075
  region: 6.263,3.925 5.237,3.925 5.237,3.575 6.263,3.575
  region: 3.575,6.263 3.575,5.237 3.925,5.237 3.925,6.263
  region: 3.075,6.262 3.075,5.238 3.425,5.238 3.425,6.262
  region: 2.575,6.262 2.575,5.238 2.925,5.238 2.925,6.262
  region: 2.075,6.262 2.075,5.238 2.425,5.238 2.425,6.262
  region: 1.575,6.262 1.575,5.238 1.925,5.238 1.925,6.262
  region: 1.075,6.262 1.075,5.238 1.425,5.238 1.425,6.262
  region: 0.575,6.262 0.575,5.238 0.925,5.238 0.925,6.262
  region: 0.075,6.262 0.075,5.238 0.425,5.238 0.425,6.262
  region: -0.425,6.262 -0.425,5.238 -0.075,5.238 -0.075,6.262
  region: -0.925,6.262 -0.925,5.238 -0.575,5.238 -0.575,6.262
  region: -1.425,6.262 -1.425,5.238 -1.075,5.238 -1.075,6.262
  region: -1.925,6.262 -1.925,5.238 -1.575,5.238 -1.575,6.262
  region: -2.425,6.262 -2.425,5.238 -2.075,5.238 -2.075,6.262
  region: -2.925,6.262 -2.925,5.238 -2.575,5.238 -2.575,6.262
  region: -3.425,6.262 -3.425,5.238 -3.075,5.238 -3.075,6.262
  region: -3.925,6.263 -3.925,5.237 -3.575,5.237 -3.575,6.263
Mechanical 16:
  rectangle: -6,3.64 -5,3.86
  rectangle: -6,3.14 -5,3.36
  rectangle: -6,2.64 -5,2.86
  rectangle: -6,2.14 -5,2.36
  rectangle: -6,1.64 -5,1.86
  rectangle: -6,1.14 -5,1.36
  rectangle: -6,0.64 -5,0.86
  rectangle: -6,0.14 -5,0.36
  rectangle: -6,-0.36 -5,-0.14
  rectangle: -6,-0.86 -5,-0.64
  rectangle: -6,-1.36 -5,-1.14
  rectangle: -6,-1.86 -5,-1.64
  rectangle: -6,-2.36 -5,-2.14
  rectangle: -6,-2.86 -5,-2.64
  rectangle: -6,-3.36 -5,-3.14
  rectangle: -6,-3.86 -5,-3.64
  rectangle: -3.86,-6 -3.64,-5
  rectangle: -3.36,-6 -3.14,-5
  rectangle: -2.86,-6 -2.64,-5
  rectangle: -2.36,-6 -2.14,-5
  rectangle: -1.86,-6 -1.64,-5
  rectangle: -1.36,-6 -1.14,-5
  rectangle: -0.86,-6 -0.64,-5
  rectangle: -0.36,-6 -0.14,-5
  rectangle: 0.14,-6 0.36,-5
  rectangle: 0.64,-6 0.86,-5
  rectangle: 1.14,-6 1.36,-5
  rectangle: 1.64,-6 1.86,-5
  rectangle: 2.14,-6 2.36,-5
  rectangle: 2.64,-6 2.86,-5
  rectangle: 3.14,-6 3.36,-5
  rectangle: 3.64,-6 3.86,-5
  rectangle: 5,-3.86 6,-3.64
  rectangle: 5,-3.36 6,-3.14
  rectangle: 5,-2.86 6,-2.64
  rectangle: 5,-2.36 6,-2.14
  rectangle: 5,-1.86 6,-1.64
  rectangle: 5,-1.36 6,-1.14
  rectangle: 5,-0.86 6,-0.64
  rectangle: 5,-0.36 6,-0.14
  rectangle: 5,0.14 6,0.36
  rectangle: 5,0.64 6,0.86
  rectangle: 5,1.14 6,1.36
  rectangle: 5,1.64 6,1.86
  rectangle: 5,2.14 6,2.36
  rectangle: 5,2.64 6,2.86
  rectangle: 5,3.14 6,3.36
  rectangle: 5,3.64 6,3.86
  rectangle: 3.64,5 3.86,6
  rectangle: 3.14,5 3.36,6
  rectangle: 2.64,5 2.86,6
  rectangle: 2.14,5 2.36,6
  rectangle: 1.64,5 1.86,6
  rectangle: 1.14,5 1.36,6
  rectangle: 0.64,5 0.86,6
  rectangle: 0.14,5 0.36,6
  rectangle: -0.36,5 -0.14,6
  rectangle: -0.86,5 -0.64,6
  rectangle: -1.36,5 -1.14,6
  rectangle: -1.86,5 -1.64,6
  rectangle: -2.36,5 -2.14,6
  rectangle: -2.86,5 -2.64,6
  rectangle: -3.36,5 -3.14,6
  rectangle: -3.86,5 -3.64,6

## P-LFQFP80-12X12 [mm]
pads (80):
  rect 0.9x0.3 smd: 1(-6.75,4.75) 2(-6.75,4.25) 3(-6.75,3.75) 4(-6.75,3.25) 5(-6.75,2.75) 6(-6.75,2.25) 7(-6.75,1.75) 8(-6.75,1.25) 9(-6.75,0.75) 10(-6.75,0.25) 11(-6.75,-0.25) 12(-6.75,-0.75) 13(-6.75,-1.25) 14(-6.75,-1.75) 15(-6.75,-2.25) 16(-6.75,-2.75) 17(-6.75,-3.25) 18(-6.75,-3.75) 19(-6.75,-4.25) 20(-6.75,-4.75) 41(6.75,-4.75) 42(6.75,-4.25) 43(6.75,-3.75) 44(6.75,-3.25) 45(6.75,-2.75) 46(6.75,-2.25) 47(6.75,-1.75) 48(6.75,-1.25) 49(6.75,-0.75) 50(6.75,-0.25) 51(6.75,0.25) 52(6.75,0.75) 53(6.75,1.25) 54(6.75,1.75) 55(6.75,2.25) 56(6.75,2.75) 57(6.75,3.25) 58(6.75,3.75) 59(6.75,4.25) 60(6.75,4.75)
  rect 0.3x0.9 smd: 21(-4.75,-6.75) 22(-4.25,-6.75) 23(-3.75,-6.75) 24(-3.25,-6.75) 25(-2.75,-6.75) 26(-2.25,-6.75) 27(-1.75,-6.75) 28(-1.25,-6.75) 29(-0.75,-6.75) 30(-0.25,-6.75) 31(0.25,-6.75) 32(0.75,-6.75) 33(1.25,-6.75) 34(1.75,-6.75) 35(2.25,-6.75) 36(2.75,-6.75) 37(3.25,-6.75) 38(3.75,-6.75) 39(4.25,-6.75) 40(4.75,-6.75) 61(4.75,6.75) 62(4.25,6.75) 63(3.75,6.75) 64(3.25,6.75) 65(2.75,6.75) 66(2.25,6.75) 67(1.75,6.75) 68(1.25,6.75) 69(0.75,6.75) 70(0.25,6.75) 71(-0.25,6.75) 72(-0.75,6.75) 73(-1.25,6.75) 74(-1.75,6.75) 75(-2.25,6.75) 76(-2.75,6.75) 77(-3.25,6.75) 78(-3.75,6.75) 79(-4.25,6.75) 80(-4.75,6.75)
Top Overlay:
  circle w0: c-4.5,4.5 r0.5
  lines w0.203: -5.898,-5.898 5.898,-5.898 5.898,5.898 -5.5,5.898 -5.898,5.5 -5.898,-5.898
Top Paste:
  rectangle: -7.175,4.612 -6.325,4.887
  rectangle: -7.175,4.113 -6.325,4.388
  rectangle: -7.175,3.612 -6.325,3.887
  rectangle: -7.175,3.113 -6.325,3.388
  rectangle: -7.175,2.612 -6.325,2.887
  rectangle: -7.175,2.113 -6.325,2.388
  rectangle: -7.175,1.612 -6.325,1.887
  rectangle: -7.175,1.113 -6.325,1.388
  rectangle: -7.175,0.612 -6.325,0.887
  rectangle: -7.175,0.113 -6.325,0.388
  rectangle: -7.175,-0.388 -6.325,-0.113
  rectangle: -7.175,-0.887 -6.325,-0.612
  rectangle: -7.175,-1.388 -6.325,-1.113
  rectangle: -7.175,-1.887 -6.325,-1.612
  rectangle: -7.175,-2.388 -6.325,-2.113
  rectangle: -7.175,-2.887 -6.325,-2.612
  rectangle: -7.175,-3.388 -6.325,-3.113
  rectangle: -7.175,-3.887 -6.325,-3.612
  rectangle: -7.175,-4.388 -6.325,-4.113
  rectangle: -7.175,-4.887 -6.325,-4.612
  region: -4.613,-7.175 -4.613,-6.325 -4.888,-6.325 -4.888,-7.175
  region: -4.113,-7.175 -4.113,-6.325 -4.388,-6.325 -4.388,-7.175
  region: -3.613,-7.175 -3.613,-6.325 -3.888,-6.325 -3.888,-7.175
  region: -3.113,-7.175 -3.113,-6.325 -3.388,-6.325 -3.388,-7.175
  region: -2.613,-7.175 -2.613,-6.325 -2.888,-6.325 -2.888,-7.175
  region: -2.113,-7.175 -2.113,-6.325 -2.388,-6.325 -2.388,-7.175
  region: -1.613,-7.175 -1.613,-6.325 -1.888,-6.325 -1.888,-7.175
  region: -1.112,-7.175 -1.112,-6.325 -1.387,-6.325 -1.387,-7.175
  region: -0.613,-7.175 -0.613,-6.325 -0.888,-6.325 -0.888,-7.175
  region: -0.112,-7.175 -0.112,-6.325 -0.387,-6.325 -0.387,-7.175
  region: 0.387,-7.175 0.387,-6.325 0.112,-6.325 0.112,-7.175
  region: 0.888,-7.175 0.888,-6.325 0.613,-6.325 0.613,-7.175
  region: 1.387,-7.175 1.387,-6.325 1.112,-6.325 1.112,-7.175
  region: 1.888,-7.175 1.888,-6.325 1.613,-6.325 1.613,-7.175
  region: 2.388,-7.175 2.388,-6.325 2.113,-6.325 2.113,-7.175
  region: 2.888,-7.175 2.888,-6.325 2.613,-6.325 2.613,-7.175
  region: 3.388,-7.175 3.388,-6.325 3.113,-6.325 3.113,-7.175
  region: 3.888,-7.175 3.888,-6.325 3.613,-6.325 3.613,-7.175
  region: 4.388,-7.175 4.388,-6.325 4.113,-6.325 4.113,-7.175
  region: 4.888,-7.175 4.888,-6.325 4.613,-6.325 4.613,-7.175
  region: 7.175,-4.612 6.325,-4.612 6.325,-4.887 7.175,-4.887
  region: 7.175,-4.113 6.325,-4.113 6.325,-4.388 7.175,-4.388
  region: 7.175,-3.612 6.325,-3.612 6.325,-3.887 7.175,-3.887
  region: 7.175,-3.113 6.325,-3.113 6.325,-3.388 7.175,-3.388
  region: 7.175,-2.612 6.325,-2.612 6.325,-2.887 7.175,-2.887
  region: 7.175,-2.113 6.325,-2.113 6.325,-2.388 7.175,-2.388
  region: 7.175,-1.612 6.325,-1.612 6.325,-1.887 7.175,-1.887
  region: 7.175,-1.113 6.325,-1.113 6.325,-1.388 7.175,-1.388
  region: 7.175,-0.612 6.325,-0.612 6.325,-0.887 7.175,-0.887
  region: 7.175,-0.113 6.325,-0.113 6.325,-0.388 7.175,-0.388
  region: 7.175,0.388 6.325,0.388 6.325,0.113 7.175,0.113
  region: 7.175,0.887 6.325,0.887 6.325,0.612 7.175,0.612
  region: 7.175,1.388 6.325,1.388 6.325,1.113 7.175,1.113
  region: 7.175,1.887 6.325,1.887 6.325,1.612 7.175,1.612
  region: 7.175,2.388 6.325,2.388 6.325,2.113 7.175,2.113
  region: 7.175,2.887 6.325,2.887 6.325,2.612 7.175,2.612
  region: 7.175,3.388 6.325,3.388 6.325,3.113 7.175,3.113
  region: 7.175,3.887 6.325,3.887 6.325,3.612 7.175,3.612
  region: 7.175,4.388 6.325,4.388 6.325,4.113 7.175,4.113
  region: 7.175,4.887 6.325,4.887 6.325,4.612 7.175,4.612
  region: 4.613,7.175 4.613,6.325 4.888,6.325 4.888,7.175
  region: 4.113,7.175 4.113,6.325 4.388,6.325 4.388,7.175
  region: 3.613,7.175 3.613,6.325 3.888,6.325 3.888,7.175
  region: 3.113,7.175 3.113,6.325 3.388,6.325 3.388,7.175
  region: 2.613,7.175 2.613,6.325 2.888,6.325 2.888,7.175
  region: 2.113,7.175 2.113,6.325 2.388,6.325 2.388,7.175
  region: 1.613,7.175 1.613,6.325 1.888,6.325 1.888,7.175
  region: 1.112,7.175 1.112,6.325 1.387,6.325 1.387,7.175
  region: 0.613,7.175 0.613,6.325 0.888,6.325 0.888,7.175
  region: 0.112,7.175 0.112,6.325 0.387,6.325 0.387,7.175
  region: -0.387,7.175 -0.387,6.325 -0.112,6.325 -0.112,7.175
  region: -0.888,7.175 -0.888,6.325 -0.613,6.325 -0.613,7.175
  region: -1.387,7.175 -1.387,6.325 -1.112,6.325 -1.112,7.175
  region: -1.888,7.175 -1.888,6.325 -1.613,6.325 -1.613,7.175
  region: -2.388,7.175 -2.388,6.325 -2.113,6.325 -2.113,7.175
  region: -2.888,7.175 -2.888,6.325 -2.613,6.325 -2.613,7.175
  region: -3.388,7.175 -3.388,6.325 -3.113,6.325 -3.113,7.175
  region: -3.888,7.175 -3.888,6.325 -3.613,6.325 -3.613,7.175
  region: -4.388,7.175 -4.388,6.325 -4.113,6.325 -4.113,7.175
  region: -4.888,7.175 -4.888,6.325 -4.613,6.325 -4.613,7.175
Top Solder:
  rectangle: -7.25,4.575 -6.25,4.925
  rectangle: -7.25,4.075 -6.25,4.425
  rectangle: -7.25,3.575 -6.25,3.925
  rectangle: -7.25,3.075 -6.25,3.425
  rectangle: -7.25,2.575 -6.25,2.925
  rectangle: -7.25,2.075 -6.25,2.425
  rectangle: -7.25,1.575 -6.25,1.925
  rectangle: -7.25,1.075 -6.25,1.425
  rectangle: -7.25,0.575 -6.25,0.925
  rectangle: -7.25,0.075 -6.25,0.425
  rectangle: -7.25,-0.425 -6.25,-0.075
  rectangle: -7.25,-0.925 -6.25,-0.575
  rectangle: -7.25,-1.425 -6.25,-1.075
  rectangle: -7.25,-1.925 -6.25,-1.575
  rectangle: -7.25,-2.425 -6.25,-2.075
  rectangle: -7.25,-2.925 -6.25,-2.575
  rectangle: -7.25,-3.425 -6.25,-3.075
  rectangle: -7.25,-3.925 -6.25,-3.575
  rectangle: -7.25,-4.425 -6.25,-4.075
  rectangle: -7.25,-4.925 -6.25,-4.575
  region: -4.575,-7.25 -4.575,-6.25 -4.925,-6.25 -4.925,-7.25
  region: -4.075,-7.25 -4.075,-6.25 -4.425,-6.25 -4.425,-7.25
  region: -3.575,-7.25 -3.575,-6.25 -3.925,-6.25 -3.925,-7.25
  region: -3.075,-7.25 -3.075,-6.25 -3.425,-6.25 -3.425,-7.25
  region: -2.575,-7.25 -2.575,-6.25 -2.925,-6.25 -2.925,-7.25
  region: -2.075,-7.25 -2.075,-6.25 -2.425,-6.25 -2.425,-7.25
  region: -1.575,-7.25 -1.575,-6.25 -1.925,-6.25 -1.925,-7.25
  region: -1.075,-7.25 -1.075,-6.25 -1.425,-6.25 -1.425,-7.25
  region: -0.575,-7.25 -0.575,-6.25 -0.925,-6.25 -0.925,-7.25
  region: -0.075,-7.25 -0.075,-6.25 -0.425,-6.25 -0.425,-7.25
  region: 0.425,-7.25 0.425,-6.25 0.075,-6.25 0.075,-7.25
  region: 0.925,-7.25 0.925,-6.25 0.575,-6.25 0.575,-7.25
  region: 1.425,-7.25 1.425,-6.25 1.075,-6.25 1.075,-7.25
  region: 1.925,-7.25 1.925,-6.25 1.575,-6.25 1.575,-7.25
  region: 2.425,-7.25 2.425,-6.25 2.075,-6.25 2.075,-7.25
  region: 2.925,-7.25 2.925,-6.25 2.575,-6.25 2.575,-7.25
  region: 3.425,-7.25 3.425,-6.25 3.075,-6.25 3.075,-7.25
  region: 3.925,-7.25 3.925,-6.25 3.575,-6.25 3.575,-7.25
  region: 4.425,-7.25 4.425,-6.25 4.075,-6.25 4.075,-7.25
  region: 4.925,-7.25 4.925,-6.25 4.575,-6.25 4.575,-7.25
  region: 7.25,-4.575 6.25,-4.575 6.25,-4.925 7.25,-4.925
  region: 7.25,-4.075 6.25,-4.075 6.25,-4.425 7.25,-4.425
  region: 7.25,-3.575 6.25,-3.575 6.25,-3.925 7.25,-3.925
  region: 7.25,-3.075 6.25,-3.075 6.25,-3.425 7.25,-3.425
  region: 7.25,-2.575 6.25,-2.575 6.25,-2.925 7.25,-2.925
  region: 7.25,-2.075 6.25,-2.075 6.25,-2.425 7.25,-2.425
  region: 7.25,-1.575 6.25,-1.575 6.25,-1.925 7.25,-1.925
  region: 7.25,-1.075 6.25,-1.075 6.25,-1.425 7.25,-1.425
  region: 7.25,-0.575 6.25,-0.575 6.25,-0.925 7.25,-0.925
  region: 7.25,-0.075 6.25,-0.075 6.25,-0.425 7.25,-0.425
  region: 7.25,0.425 6.25,0.425 6.25,0.075 7.25,0.075
  region: 7.25,0.925 6.25,0.925 6.25,0.575 7.25,0.575
  region: 7.25,1.425 6.25,1.425 6.25,1.075 7.25,1.075
  region: 7.25,1.925 6.25,1.925 6.25,1.575 7.25,1.575
  region: 7.25,2.425 6.25,2.425 6.25,2.075 7.25,2.075
  region: 7.25,2.925 6.25,2.925 6.25,2.575 7.25,2.575
  region: 7.25,3.425 6.25,3.425 6.25,3.075 7.25,3.075
  region: 7.25,3.925 6.25,3.925 6.25,3.575 7.25,3.575
  region: 7.25,4.425 6.25,4.425 6.25,4.075 7.25,4.075
  region: 7.25,4.925 6.25,4.925 6.25,4.575 7.25,4.575
  region: 4.575,7.25 4.575,6.25 4.925,6.25 4.925,7.25
  region: 4.075,7.25 4.075,6.25 4.425,6.25 4.425,7.25
  region: 3.575,7.25 3.575,6.25 3.925,6.25 3.925,7.25
  region: 3.075,7.25 3.075,6.25 3.425,6.25 3.425,7.25
  region: 2.575,7.25 2.575,6.25 2.925,6.25 2.925,7.25
  region: 2.075,7.25 2.075,6.25 2.425,6.25 2.425,7.25
  region: 1.575,7.25 1.575,6.25 1.925,6.25 1.925,7.25
  region: 1.075,7.25 1.075,6.25 1.425,6.25 1.425,7.25
  region: 0.575,7.25 0.575,6.25 0.925,6.25 0.925,7.25
  region: 0.075,7.25 0.075,6.25 0.425,6.25 0.425,7.25
  region: -0.425,7.25 -0.425,6.25 -0.075,6.25 -0.075,7.25
  region: -0.925,7.25 -0.925,6.25 -0.575,6.25 -0.575,7.25
  region: -1.425,7.25 -1.425,6.25 -1.075,6.25 -1.075,7.25
  region: -1.925,7.25 -1.925,6.25 -1.575,6.25 -1.575,7.25
  region: -2.425,7.25 -2.425,6.25 -2.075,6.25 -2.075,7.25
  region: -2.925,7.25 -2.925,6.25 -2.575,6.25 -2.575,7.25
  region: -3.425,7.25 -3.425,6.25 -3.075,6.25 -3.075,7.25
  region: -3.925,7.25 -3.925,6.25 -3.575,6.25 -3.575,7.25
  region: -4.425,7.25 -4.425,6.25 -4.075,6.25 -4.075,7.25
  region: -4.925,7.25 -4.925,6.25 -4.575,6.25 -4.575,7.25
Mechanical 16:
  rectangle: -7,4.64 -6,4.86
  rectangle: -7,4.14 -6,4.36
  rectangle: -7,3.64 -6,3.86
  rectangle: -7,3.14 -6,3.36
  rectangle: -7,2.64 -6,2.86
  rectangle: -7,2.14 -6,2.36
  rectangle: -7,1.64 -6,1.86
  rectangle: -7,1.14 -6,1.36
  rectangle: -7,0.64 -6,0.86
  rectangle: -7,0.14 -6,0.36
  rectangle: -7,-0.36 -6,-0.14
  rectangle: -7,-0.86 -6,-0.64
  rectangle: -7,-1.36 -6,-1.14
  rectangle: -7,-1.86 -6,-1.64
  rectangle: -7,-2.36 -6,-2.14
  rectangle: -7,-2.86 -6,-2.64
  rectangle: -7,-3.36 -6,-3.14
  rectangle: -7,-3.86 -6,-3.64
  rectangle: -7,-4.36 -6,-4.14
  rectangle: -7,-4.86 -6,-4.64
  rectangle: -4.86,-7 -4.64,-6
  rectangle: -4.36,-7 -4.14,-6
  rectangle: -3.86,-7 -3.64,-6
  rectangle: -3.36,-7 -3.14,-6
  rectangle: -2.86,-7 -2.64,-6
  rectangle: -2.36,-7 -2.14,-6
  rectangle: -1.86,-7 -1.64,-6
  rectangle: -1.36,-7 -1.14,-6
  rectangle: -0.86,-7 -0.64,-6
  rectangle: -0.36,-7 -0.14,-6
  rectangle: 0.14,-7 0.36,-6
  rectangle: 0.64,-7 0.86,-6
  rectangle: 1.14,-7 1.36,-6
  rectangle: 1.64,-7 1.86,-6
  rectangle: 2.14,-7 2.36,-6
  rectangle: 2.64,-7 2.86,-6
  rectangle: 3.14,-7 3.36,-6
  rectangle: 3.64,-7 3.86,-6
  rectangle: 4.14,-7 4.36,-6
  rectangle: 4.64,-7 4.86,-6
  rectangle: 6,-4.86 7,-4.64
  rectangle: 6,-4.36 7,-4.14
  rectangle: 6,-3.86 7,-3.64
  rectangle: 6,-3.36 7,-3.14
  rectangle: 6,-2.86 7,-2.64
  rectangle: 6,-2.36 7,-2.14
  rectangle: 6,-1.86 7,-1.64
  rectangle: 6,-1.36 7,-1.14
  rectangle: 6,-0.86 7,-0.64
  rectangle: 6,-0.36 7,-0.14
  rectangle: 6,0.14 7,0.36
  rectangle: 6,0.64 7,0.86
  rectangle: 6,1.14 7,1.36
  rectangle: 6,1.64 7,1.86
  rectangle: 6,2.14 7,2.36
  rectangle: 6,2.64 7,2.86
  rectangle: 6,3.14 7,3.36
  rectangle: 6,3.64 7,3.86
  rectangle: 6,4.14 7,4.36
  rectangle: 6,4.64 7,4.86
  rectangle: 4.64,6 4.86,7
  rectangle: 4.14,6 4.36,7
  rectangle: 3.64,6 3.86,7
  rectangle: 3.14,6 3.36,7
  rectangle: 2.64,6 2.86,7
  rectangle: 2.14,6 2.36,7
  rectangle: 1.64,6 1.86,7
  rectangle: 1.14,6 1.36,7
  rectangle: 0.64,6 0.86,7
  rectangle: 0.14,6 0.36,7
  rectangle: -0.36,6 -0.14,7
  rectangle: -0.86,6 -0.64,7
  rectangle: -1.36,6 -1.14,7
  rectangle: -1.86,6 -1.64,7
  rectangle: -2.36,6 -2.14,7
  rectangle: -2.86,6 -2.64,7
  rectangle: -3.36,6 -3.14,7
  rectangle: -3.86,6 -3.64,7
  rectangle: -4.36,6 -4.14,7
  rectangle: -4.86,6 -4.64,7